# EAGLE library part PINS_ARDUINO_ANALOG (library arduino)
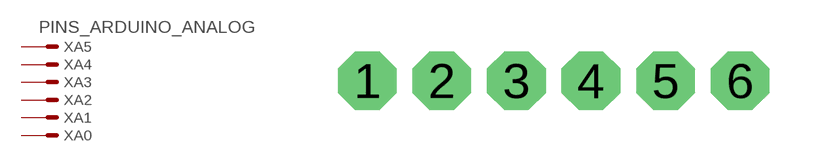
[diagram p0: symbol with the pads of 6PIN; footprint 6PIN]

Designator prefix X; gates A5=MV A4=M A3=M A2=M A1=M A0=M

## PINS_ARDUINO_ANALOG1  [6PIN]
1  A5:S  pas
2  A4:S  pas
3  A3:S  pas
4  A2:S  pas
5  A1:S  pas
6  A0:S  pas

## Footprint 6PIN (pad centres in mm)
CONNECTOR series 057 contact pc board low profile headers straight
drill 1 pad 2 octagon: 1 -6.35,-1.27; 2 -3.81,-1.27; 3 -1.27,-1.27; 4 1.27,-1.27; 5 3.81,-1.27; 6 6.35,-1.27